# Altium footprint library OMD.PcbLib: 62 footprints (part 2 of 4)
Each footprint in its own frame and in the unit in brackets; x right, y up, seen from the top. Pads: shape width x height; smd on the part's side, far side on the other; paste and mask are expansions set on the pad; w line width, h text height; cw(c..) or ccw(c..) is an arc to the next point about the centre after c.
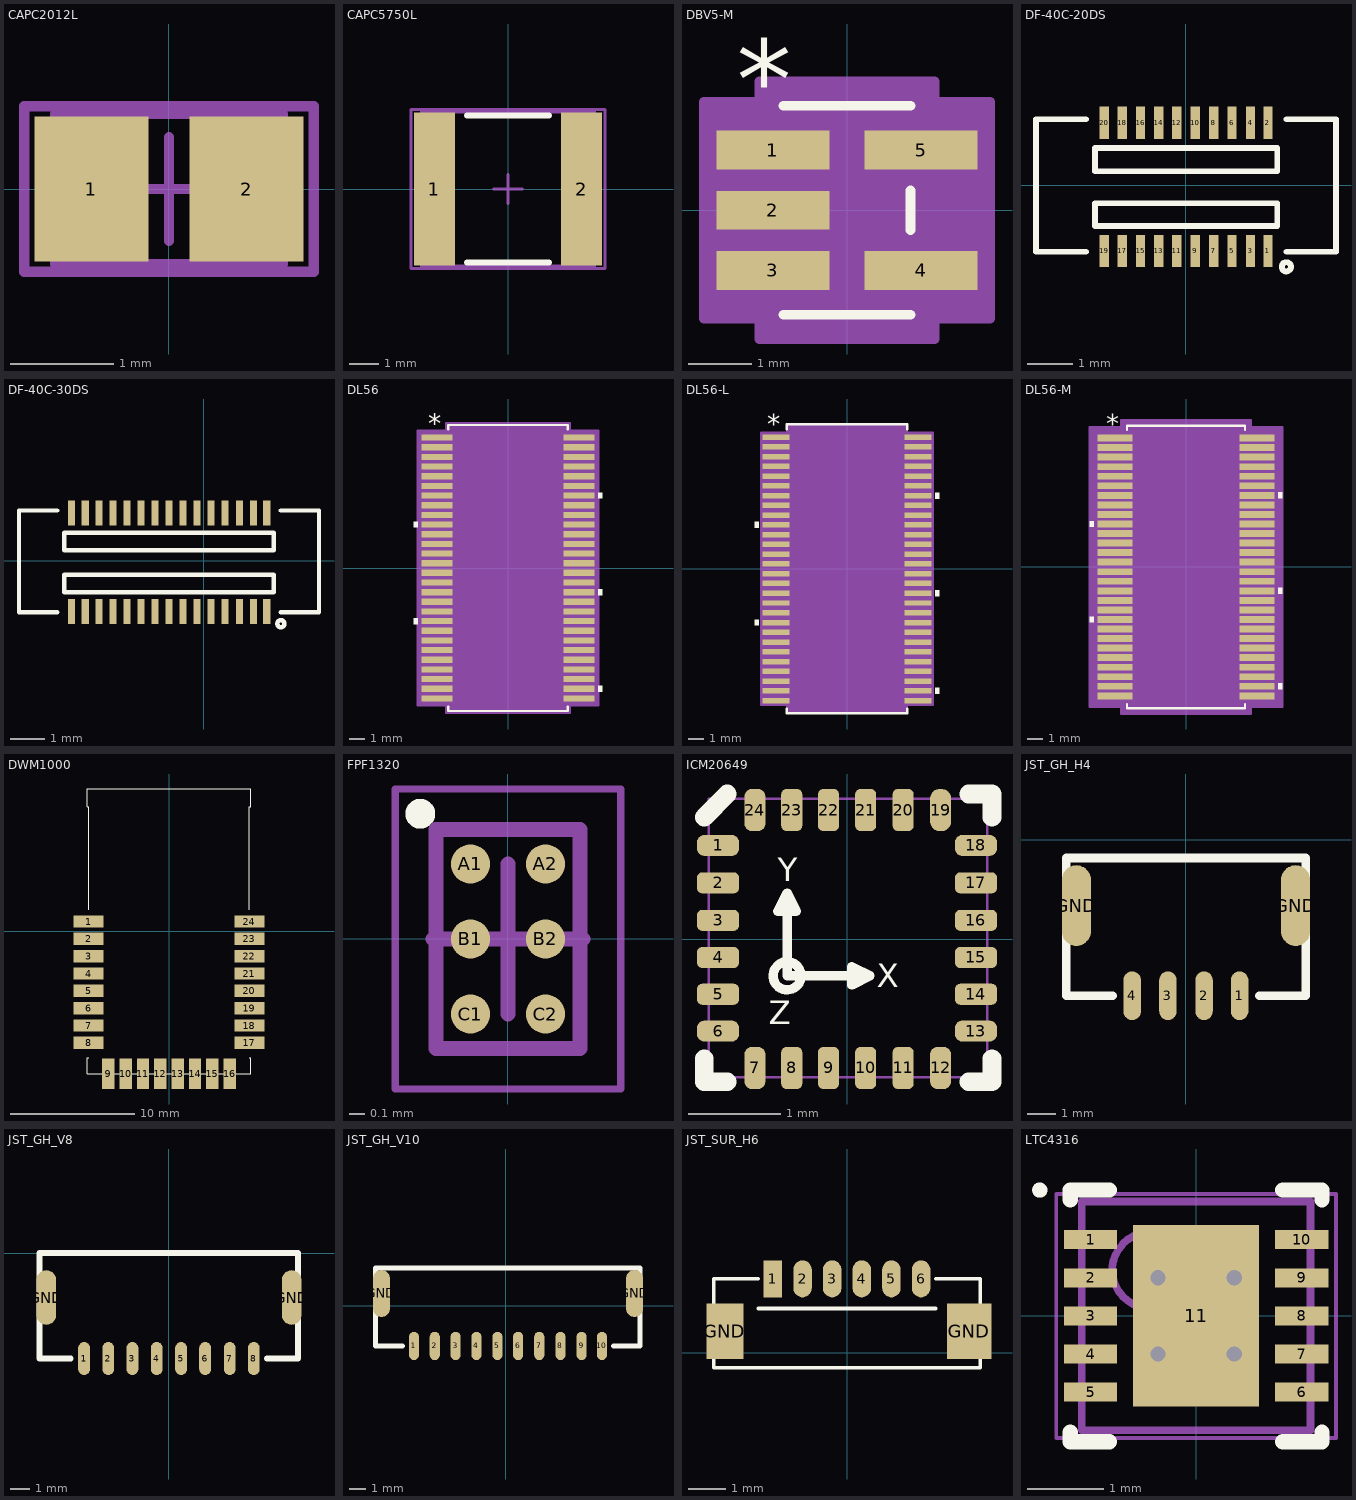
[diagram p1: the footprints below, top view; thin cyan lines are the x and y axes]

## CAPC2012L [mm] "Chip Capacitor, Body 2.0x1.3mm, IPC High Density"
height 1.1
pads (2):
  rect 1.1x1.4 smd: 1(-0.75,0) 2(0.75,0)
Mechanical 13:
  lines w0.1: -1.1,-0.725 1.1,-0.725 1.1,0.725 -1.1,0.725 -1.1,-0.725
Mechanical 15:
  lines w0.1: -0.5,0 0.5,0 ; 0,-0.5 0,0.5 ; -1.4,-0.8 1.4,-0.8 1.4,0.8 -1.4,0.8 -1.4,-0.8
3D body: height 1.1, standoff 0, extent -1.1,-0.725 1.1,0.725

## CAPC5750L [mm] "Chip Capacitor, Body 5.7x5.0mm, IPC High Density"
height 1.35
pads (2):
  rect 1.4x5.2 smd: 1(-2.5,0) 2(2.5,0)
Top Overlay:
  lines w0.2: -1.4,-2.5 1.4,-2.5 ; -1.4,2.5 1.4,2.5
Mechanical 13:
  lines w0.1: -2.95,-2.625 -2.95,2.625 2.95,2.625 2.95,-2.625 -2.95,-2.625
Mechanical 15:
  lines w0.1: -0.5,0 0.5,0 ; 0,-0.5 0,0.5 ; -3.3,-2.7 -3.3,2.7 3.3,2.7 3.3,-2.7 -3.3,-2.7
3D body: height 1.35, standoff 0, extent -2.95,-2.625 2.95,2.625

## DBV5-M [mil]
pads (5):
  rect 70x24 smd paste+0 mask+0: 1(-46,37.4) 2(-46,0) 3(-46,-37.4) 4(46,-37.4) 5(46,37.4)
Top Overlay:
  lines w6: -39.5,-65 39.5,-65 ; -39.5,65 39.5,65 ; 39.5,-12.3 39.5,12.3
  text "*" at -68.5,56.4 h50
Mechanical 13:
  lines w0: -12,60 ccw(c0,60) 12,60
  lines w1: -59,-47.4 -59,-27.4 -34.5,-27.4 -34.5,-47.4 -59,-47.4 ; -59,-10 -59,10 -34.5,10 -34.5,-10 -59,-10 ; -59,27.4 -59,47.4 -34.5,47.4 -34.5,27.4 -59,27.4 ; -34.5,-60 34.5,-60 34.5,60 -34.5,60 -34.5,-60 ; 34.5,-47.4 34.5,-27.4 59,-27.4 59,-47.4 34.5,-47.4 ; 34.5,27.4 34.5,47.4 59,47.4 59,27.4 34.5,27.4
  text "*" at -37,18.4 h50
Mechanical 15:
  region: 54.5,-80 -54.5,-80 -54.5,-67.4 -89,-67.4 -89,67.4 -54.5,67.4 -54.5,80 54.5,80 54.5,67.4 89,67.4 89,-67.4 54.5,-67.4
  lines w6: -89,-67.4 -54.5,-67.4 -54.5,-80 54.5,-80 54.5,-67.4 89,-67.4 89,67.4 54.5,67.4 54.5,80 -54.5,80 -54.5,67.4 -89,67.4 -89,-67.4
3D body "DBV5-M.step": height 57.09, standoff 0, extent -59.01,-60 59.02,60
3D body: height 10, standoff 0, extent 0,0 10,10

## DF-40C-20DS [mil] "DF-40C-20DS"
pads (20):
  rect 8x28 smd: 1(71,-57.09) 2(71,54) 3(56,-57.09) 4(56,54) 5(40,-57.09) 6(40,54) 7(24,-57.09) 8(24,54) 9(8,-57.09) 10(8,54) 11(-7.87,-57.09) 12(-7.87,54) 13(-23.62,-57.09) 14(-23.62,54) 15(-39.37,-57.09) 16(-39.37,54) 17(-55.12,-57.09) 18(-55.12,54) 19(-70.87,-57.09) 20(-70.87,54)
Top Overlay:
  circle w5: c87,-70.87 r4
  lines w5: -86.61,-57.87 -129.92,-57.87 -129.92,57 -86.61,57 ; 87,-57.87 130,-57.87 130,57 87,57 ; -78.74,-35.43 -78.74,-15.75 79,-15.75 79,-35.43 -78.74,-35.43 ; -78.74,12 79,12 79,32 -78.74,32 -78.74,12
3D body "DF40C-20DS.stp": height 55.12, standoff -1.97, extent -129.92,-68.07 129.92,65

## DF-40C-30DS [mil] "DF-40C-30DS"
height 76.77
pads (30):
  rect 8x28 smd: 1(71,-57.09) 2(71,54) 3(56,-57.09) 4(56,54) 5(40,-57.09) 6(40,54) 7(24,-57.09) 8(24,54) 9(8,-57.09) 10(8,54) 11(-7.87,-57.09) 12(-7.87,54) 13(-23.62,-57.09) 14(-23.62,54) 15(-39.37,-57.09) 16(-39.37,54) 17(-55.12,-57.09) 18(-55.12,54) 19(-70.87,-57.09) 20(-70.87,54) 21(-86.74,-57.09) 22(-86.74,54) 23(-102.49,-57.09) 24(-102.49,54) 25(-118.24,-57.09) 26(-118.24,54) 27(-133.98,-57.09) 28(-133.98,54) 29(-149.73,-57.09) 30(-149.73,54)
Top Overlay:
  circle w5: c87,-70.87 r4
  lines w5: -165.48,-57.87 -208.79,-57.87 -208.79,57 -165.48,57 ; -157.61,-35.43 -157.61,-15.75 ; -157.61,12 -157.61,32 ; -157.5,-35.43 79,-35.43 79,-15.75 -157.5,-15.75 ; -157.5,12 79,12 79,32 -157.5,32 ; 87,-57.87 130,-57.87 130,57 87,57
3D body "DF40C(2.0)-30DS.stp": height 77.17, standoff 0.39, extent -209.29,-68.07 129.29,65

## DL56 [mil]
pads (56):
  rect 80.5x16 smd paste+0 mask+0: 1(-183.75,337.5) 2(-183.75,312.5) 3(-183.75,287.5) 4(-183.75,262.5) 5(-183.75,237.5) 6(-183.75,212.5) 7(-183.75,187.5) 8(-183.75,162.5) 9(-183.75,137.5) 10(-183.75,112.5) 11(-183.75,87.5) 12(-183.75,62.5) 13(-183.75,37.5) 14(-183.75,12.5) 15(-183.75,-12.5) 16(-183.75,-37.5) 17(-183.75,-62.5) 18(-183.75,-87.5) 19(-183.75,-112.5) 20(-183.75,-137.5) 21(-183.75,-162.5) 22(-183.75,-187.5) 23(-183.75,-212.5) 24(-183.75,-237.5) 25(-183.75,-262.5) 26(-183.75,-287.5) 27(-183.75,-312.5) 28(-183.75,-337.5) 29(183.75,-337.5) 30(183.75,-312.5) 31(183.75,-287.5) 32(183.75,-262.5) 33(183.75,-237.5) 34(183.75,-212.5) 35(183.75,-187.5) 36(183.75,-162.5) 37(183.75,-137.5) 38(183.75,-112.5) 39(183.75,-87.5) 40(183.75,-62.5) 41(183.75,-37.5) 42(183.75,-12.5) 43(183.75,12.5) 44(183.75,37.5) 45(183.75,62.5) 46(183.75,87.5) 47(183.75,112.5) 48(183.75,137.5) 49(183.75,162.5) 50(183.75,187.5) 51(183.75,212.5) 52(183.75,237.5) 53(183.75,262.5) 54(183.75,287.5) 55(183.75,312.5) 56(183.75,337.5)
Top Overlay:
  region: 234,195 244,195 244,180 234,180
  region: 234,-55 244,-55 244,-70 234,-70
  region: 234,-305 244,-305 244,-320 234,-320
  region: -234,-130 -244,-130 -244,-145 -234,-145
  region: -234,120 -244,120 -244,105 -234,105
  lines w6: -154.5,-358.6 -154.5,-370 154.5,-370 154.5,-358.6 ; -154.5,358.6 -154.5,370 154.5,370 154.5,358.6
  text "*" at -206.25,348.5 h50
Mechanical 13:
  drawing of 229 lines, arcs and shapes, not listed
  text "*" at -147,312 h50
Mechanical 15:
  region: -159.5,-355.5 -234,-355.5 -234,355.5 -159.5,355.5 -159.5,375 159.5,375 159.5,355.5 234,355.5 234,-355.5 159.5,-355.5 159.5,-375 -159.5,-375
  lines w6: -234,-355.5 -159.5,-355.5 -159.5,-375 159.5,-375 159.5,-355.5 234,-355.5 234,355.5 159.5,355.5 159.5,375 -159.5,375 -159.5,355.5 -234,355.5 -234,-355.5
3D body: height 10, standoff 0, extent 0,0 10,10

## DL56-L [mil]
pads (56):
  rect 68.5x14 smd paste+0 mask+0: 1(-181.75,337.5) 2(-181.75,312.5) 3(-181.75,287.5) 4(-181.75,262.5) 5(-181.75,237.5) 6(-181.75,212.5) 7(-181.75,187.5) 8(-181.75,162.5) 9(-181.75,137.5) 10(-181.75,112.5) 11(-181.75,87.5) 12(-181.75,62.5) 13(-181.75,37.5) 14(-181.75,12.5) 15(-181.75,-12.5) 16(-181.75,-37.5) 17(-181.75,-62.5) 18(-181.75,-87.5) 19(-181.75,-112.5) 20(-181.75,-137.5) 21(-181.75,-162.5) 22(-181.75,-187.5) 23(-181.75,-212.5) 24(-181.75,-237.5) 25(-181.75,-262.5) 26(-181.75,-287.5) 27(-181.75,-312.5) 28(-181.75,-337.5) 29(181.75,-337.5) 30(181.75,-312.5) 31(181.75,-287.5) 32(181.75,-262.5) 33(181.75,-237.5) 34(181.75,-212.5) 35(181.75,-187.5) 36(181.75,-162.5) 37(181.75,-137.5) 38(181.75,-112.5) 39(181.75,-87.5) 40(181.75,-62.5) 41(181.75,-37.5) 42(181.75,-12.5) 43(181.75,12.5) 44(181.75,37.5) 45(181.75,62.5) 46(181.75,87.5) 47(181.75,112.5) 48(181.75,137.5) 49(181.75,162.5) 50(181.75,187.5) 51(181.75,212.5) 52(181.75,237.5) 53(181.75,262.5) 54(181.75,287.5) 55(181.75,312.5) 56(181.75,337.5)
Top Overlay:
  region: -226,120 -236,120 -236,105 -226,105
  region: -226,-130 -236,-130 -236,-145 -226,-145
  region: 226,-305 236,-305 236,-320 226,-320
  region: 226,-55 236,-55 236,-70 226,-70
  region: 226,195 236,195 236,180 226,180
  lines w6: -154.5,-357.6 -154.5,-370 154.5,-370 154.5,-357.6 ; -154.5,357.6 -154.5,370 154.5,370 154.5,357.6
  text "*" at -204.25,346.5 h50
Mechanical 13:
  drawing of 229 lines, arcs and shapes, not listed
  text "*" at -147,312 h50
Mechanical 15:
  region: -153.5,-348.5 -220,-348.5 -220,348.5 -153.5,348.5 -153.5,369 153.5,369 153.5,348.5 220,348.5 220,-348.5 153.5,-348.5 153.5,-369 -153.5,-369
  lines w6: -220,-348.5 -220,348.5 -153.5,348.5 -153.5,369 153.5,369 153.5,348.5 220,348.5 220,-348.5 153.5,-348.5 153.5,-369 -153.5,-369 -153.5,-348.5 -220,-348.5
3D body: height 10, standoff 0, extent 0,0 10,10

## DL56-M [mil]
pads (56):
  rect 92.5x18 smd paste+0 mask+0: 1(-185.75,337.5) 2(-185.75,312.5) 3(-185.75,287.5) 4(-185.75,262.5) 5(-185.75,237.5) 6(-185.75,212.5) 7(-185.75,187.5) 8(-185.75,162.5) 9(-185.75,137.5) 10(-185.75,112.5) 11(-185.75,87.5) 12(-185.75,62.5) 13(-185.75,37.5) 14(-185.75,12.5) 15(-185.75,-12.5) 16(-185.75,-37.5) 17(-185.75,-62.5) 18(-185.75,-87.5) 19(-185.75,-112.5) 20(-185.75,-137.5) 21(-185.75,-162.5) 22(-185.75,-187.5) 23(-185.75,-212.5) 24(-185.75,-237.5) 25(-185.75,-262.5) 26(-185.75,-287.5) 27(-185.75,-312.5) 28(-185.75,-337.5) 29(185.75,-337.5) 30(185.75,-312.5) 31(185.75,-287.5) 32(185.75,-262.5) 33(185.75,-237.5) 34(185.75,-212.5) 35(185.75,-187.5) 36(185.75,-162.5) 37(185.75,-137.5) 38(185.75,-112.5) 39(185.75,-87.5) 40(185.75,-62.5) 41(185.75,-37.5) 42(185.75,-12.5) 43(185.75,12.5) 44(185.75,37.5) 45(185.75,62.5) 46(185.75,87.5) 47(185.75,112.5) 48(185.75,137.5) 49(185.75,162.5) 50(185.75,187.5) 51(185.75,212.5) 52(185.75,237.5) 53(185.75,262.5) 54(185.75,287.5) 55(185.75,312.5) 56(185.75,337.5)
Top Overlay:
  region: -242,120 -252,120 -252,105 -242,105
  region: -242,-130 -252,-130 -252,-145 -242,-145
  region: 242,-305 252,-305 252,-320 242,-320
  region: 242,-55 252,-55 252,-70 242,-70
  region: 242,195 252,195 252,180 242,180
  lines w6: -154.5,-359.6 -154.5,-370 154.5,-370 154.5,-359.6 ; -154.5,359.6 -154.5,370 154.5,370 154.5,359.6
  text "*" at -208.25,350.5 h50
Mechanical 13:
  drawing of 229 lines, arcs and shapes, not listed
  text "*" at -147,312 h50
Mechanical 15:
  region: -169.5,-366.5 -252,-366.5 -252,366.5 -169.5,366.5 -169.5,385 169.5,385 169.5,366.5 252,366.5 252,-366.5 169.5,-366.5 169.5,-385 -169.5,-385
  lines w6: -252,-366.5 -252,366.5 -169.5,366.5 -169.5,385 169.5,385 169.5,366.5 252,366.5 252,-366.5 169.5,-366.5 169.5,-385 -169.5,-385 -169.5,-366.5 -252,-366.5
3D body: height 10, standoff 0, extent 0,0 10,10

## DWM1000 [mm] "DWM1000"
pads (24):
  rect 2.45x1 smd mask+0.05: 1(-6.5,0.8) 2(-6.5,-0.6) 3(-6.5,-2) 4(-6.5,-3.4) 5(-6.5,-4.8) 6(-6.5,-6.2) 7(-6.5,-7.6) 8(-6.5,-9) 17(6.5,-9) 18(6.5,-7.6) 19(6.5,-6.2) 20(6.5,-4.8) 21(6.5,-3.4) 22(6.5,-2) 23(6.5,-0.6) 24(6.5,0.8)
  rect 1x2.45 smd mask+0.05: 9(-4.9,-11.5) 10(-3.5,-11.5) 11(-2.1,-11.5) 12(-0.7,-11.5) 13(0.7,-11.5) 14(2.1,-11.5) 15(3.5,-11.5) 16(4.9,-11.5)
Top Overlay:
  lines w0.1: -6.5,-10.2 -6.6,-10.2 -6.6,-11.5 6.6,-11.5 6.6,-10.2 6.5,-10.2 ; -6.5,1.755 -6.5,10.05 -6.6,10.05 -6.6,11.5 6.6,11.5 6.6,10.05 6.5,10.05 6.5,1.755
3D body "DWM1000 Module.STEP": height -1.59, standoff -4.5, extent -6.525,-11.475 6.475,11.525

## FPF1320 [mm] "BGA, 6-Leads, Body 0.96x1.46mmx0.63mm, Pitch 0.50mm"
height 0.63
pads (6):
  round 0.26 smd: A1(-0.25,0.5) A2(0.25,0.5) B1(-0.25,0) B2(0.25,0) C1(-0.25,-0.5) C2(0.25,-0.5)
Top Overlay:
  circle w0.1: c-0.585,0.835 r0.05
Mechanical 13:
  lines w0.1: -0.48,-0.73 0.48,-0.73 0.48,0.73 -0.48,0.73 -0.48,-0.73
Mechanical 15:
  lines w0.05: -0.75,-1 0.75,-1 0.75,1 -0.75,1 -0.75,-1
  lines w0.1: -0.5,0 0.5,0 ; 0,-0.5 0,0.5
3D body "FPF1320.step": height 0.63, standoff 0, extent -0.48,-0.73 0.48,0.73

## ICM20649 [mm] "ICM20649"
pads (24):
  rrect70% 0.457x0.229 smd mask+0.05: 1(-1.4,1.016) 6(-1.4,-1) 13(1.4,-1) 18(1.4,1.016)
  rrect50% 0.457x0.229 smd mask+0.05: 2(-1.4,0.61) 3(-1.4,0.203) 4(-1.4,-0.2) 5(-1.4,-0.6) 14(1.4,-0.6) 15(1.4,-0.2) 16(1.4,0.203) 17(1.4,0.61)
  rrect70% 0.229x0.457 smd mask+0.05: 7(-1,-1.4) 12(1.016,-1.4) 24(-1,1.4)
  rrect50% 0.229x0.457 smd mask+0.05: 8(-0.6,-1.4) 9(-0.2,-1.4) 10(0.203,-1.4) 11(0.61,-1.4) 20(0.61,1.4) 21(0.203,1.4) 22(-0.2,1.4) 23(-0.6,1.4)
  rrect90% 0.229x0.457 smd mask+0.05: 19(1.016,1.4)
Top Overlay:
  circle w0.102: c-0.65,-0.4 r0.152
  lines w0.102: -0.65,0.5 -0.55,0.3 -0.75,0.3 -0.65,0.5 ; -0.65,0.5 -0.65,-0.4 0.25,-0.4 ; 0.25,-0.4 0.05,-0.3 0.05,-0.5 0.25,-0.4
  lines w0.203: -1.55,-1.3 -1.55,-1.55 -1.3,-1.55 ; -1.55,1.321 -1.3,1.575 ; 1.321,-1.55 1.575,-1.55 1.575,-1.3 ; 1.321,1.575 1.575,1.575 1.575,1.321
  text "X" at 0.325,-0.525 h0.26
  text "Z" at -0.85,-0.925 h0.26
  text "Y" at -0.75,0.625 h0.26
Top Solder:
  pour cut-out: -1.143,1.143 -1.143,-1.143 1.143,-1.143 1.143,1.143
Bottom Solder:
  pour cut-out: -1.143,1.143 -1.143,-1.143 1.143,-1.143 1.143,1.143
Mechanical 16:
  lines w0.025: -1.5,-1.5 1.524,-1.5 1.524,1.524 -1.5,1.524 -1.5,-1.5

## JST_GH_H4 [mil]
pads (6):
  rrect100% 24x67 smd: 1(74,-214.57) 2(25,-214.57) 3(-24.61,-214.57) 4(-73.82,-214.57)
  rrect100% 40x111 smd: GND(-150.59,-90.55) GND(151,-90.55)
Top Overlay:
  lines w12: -100.79,-214.57 -164.37,-214.57 -164.37,-25 165,-25 165,-214.57 101,-214.57
  text "." at 110,-225 h155
3D body "SM04B-GHS-TB.STEP": height 170.32, standoff -0.94, extent -161.63,-234.26 163.17,-43.31

## JST_GH_V8 [mil]
pads (10):
  rrect100% 24x67 smd: 1(-172.24,-214.57) 2(-123.03,-214.57) 3(-73.82,-214.57) 4(-24.61,-214.57) 5(25,-214.57) 6(74,-214.57) 7(124,-214.57) 8(173,-214.57)
  rrect100% 40x111 smd: GND(-249.02,-90.55) GND(250,-90.55)
Top Overlay:
  lines w12: -199.21,-214.57 -262.8,-214.57 -262.8,0 263,0 263,-214.57 200,-214.57
  text "." at -195,-225 h155
3D body "BM08B-GHS-TBT.STEP": height 164.56, standoff -0.8, extent -260.65,-233.88 261,-39

## JST_GH_V10 [mil]
pads (12):
  rrect100% 24x67 smd: 1(-217.24,-94.57) 2(-168.03,-94.57) 3(-118.82,-94.57) 4(-69.61,-94.57) 5(-20,-94.57) 6(29,-94.57) 7(79,-94.57) 8(129,-94.57) 9(179,-94.57) 10(227,-94.57)
  rrect100% 40x111 smd: GND(-294.02,29.45) GND(304,29.45)
Top Overlay:
  lines w12: -244.21,-94.57 -307.8,-94.57 -307.8,90 317,90 317,-94.57 254,-94.57
  text "." at -240,-105 h155
3D body "BM10B-GHS-TBT.STEP": height 152.56, standoff -12.8, extent -305.04,-127.38 315.04,67.5

## JST_SUR_H6 [mm]
pads (8):
  rect 0.5x1 smd: 1(-2,2)
  rrect100% 0.5x1 smd: 2(-1.2,2) 3(-0.4,2) 4(0.4,2) 5(1.2,2) 6(2,2)
  rect 1x1.5 smd: GND(-3.3,0.585)
  rect 1.2x1.5 smd: GND(3.3,0.585)
Top Overlay:
  lines w0.1: -2.4,1.2 2.4,1.2 ; -2.4,2 -3.6,2 -3.6,-0.4 3.6,-0.4 3.6,2 2.4,2
  text "." at -2.4,2.8 h0.7
3D body "SM06B-SURS-TF.STEP": height 1.7, standoff -0.05, extent -3.5,-0.4 3.5,2.3

## LTC4316 [mm]
height 0.75
pads (11):
  rect 0.7x0.25 smd: 1(-1.385,1) 2(-1.385,0.5) 3(-1.385,0) 4(-1.385,-0.5) 5(-1.385,-1) 6(1.385,-1) 7(1.385,-0.5) 8(1.385,0) 9(1.385,0.5) 10(1.385,1)
  rect 1.65x2.38 smd: 11(0,0)
via 0.5,-0.5 diameter 0.5 hole 0.2
via -0.5,-0.5 diameter 0.5 hole 0.2
via 0.5,0.5 diameter 0.5 hole 0.2
via -0.5,0.5 diameter 0.5 hole 0.2
Top Overlay:
  circle w0.1: c-2.05,1.65 r0.05
  lines w0.2: -1.65,-1.525 -1.65,-1.65 -1.135,-1.65 ; -1.65,1.525 -1.65,1.65 -1.135,1.65 ; 1.135,-1.65 1.65,-1.65 1.65,-1.525 ; 1.135,1.65 1.65,1.65 1.65,1.525
Mechanical 13:
  circle w0.1: c-0.6,0.6 r0.5
  lines w0.1: -1.5,-1.5 1.5,-1.5 1.5,1.5 -1.5,1.5 -1.5,-1.5
Mechanical 15:
  lines w0.05: -1.835,-1.6 1.835,-1.6 1.835,1.6 -1.835,1.6 -1.835,-1.6
  lines w0.1: -0.5,0 0.5,0 ; 0,-0.5 0,0.5
3D body "LTC4316.step": height 0.75, standoff 0, extent -1.55,-1.5 1.55,1.5